# Altium schematic symbol library 24CW1280T-I_OT.Schlib: 1 symbol
Pins are listed as number, name and electrical type; pins without a type are passive.

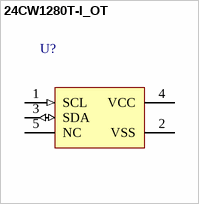
[diagram p0: symbol 24CW1280T-I_OT]

## 24CW1280T-I_OT
designator U?
EEPROM
pins: 1 SCL (in), 2 VSS (power), 3 SDA (io), 4 VCC (power), 5 NC